# Altium schematic symbol library ICs.SchLib: 20 symbols (part 1 of 2)
Pins are listed as number, name and electrical type; pins without a type are passive.

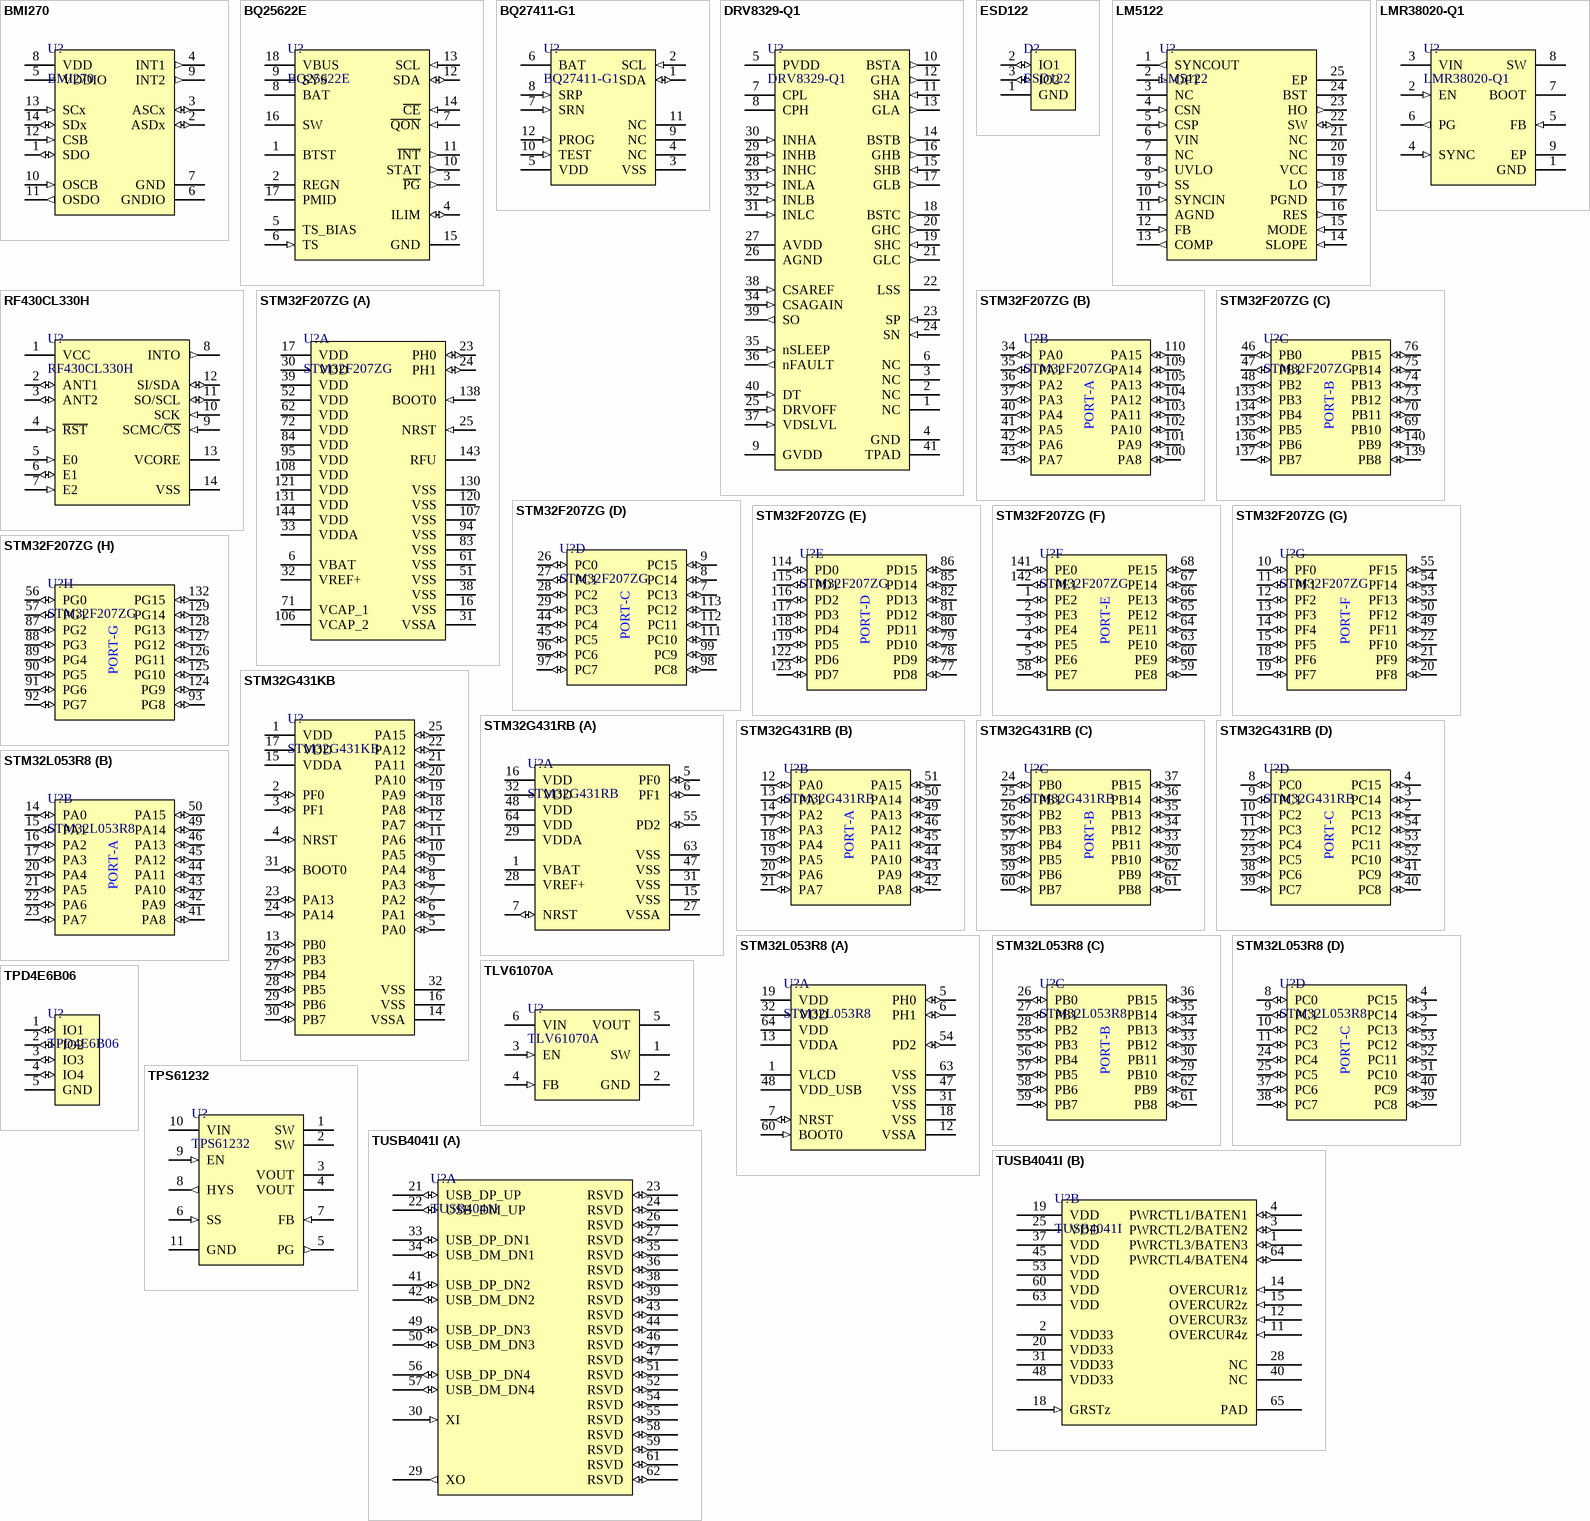
[diagram p0: symbols BMI270 to TUSB4041I]

## BMI270
designator U?
6-axis, smart, low power Inertial Measurement Unit; Manufacturer 1: Bosch Tools; Description 1: LGA-14(2.5x3) Attitude Sensor/Gyroscope ROHS; Category 1: Sensors; Supplier 1: DigiKey; Supplier Part Number 1: 828-1091-1-ND; Manufacturer Part Number 1: BMI270; RoHS 1: Compliant; Export Control Classification Number (ECCN) Code: EAR99; Introduction Date: 2019-05-31; Lifecycle Status: Production; REACH SVHC: Yes; ComponentLink1URL: https://datasheet.octopart.com:443/BMI270-Bosch-Tools-datasheet-181206537.pdf?src-supplier=IHS; ComponentLink1Description: https://datasheet.octopart.com:443/BMI270-Bosch-Tools-datasheet-181206537.pdf?src-supplier=IHS; Supplier 2: DigiKey; Supplier Part Number 2: 828-1091-6-ND; Supplier 3: DigiKey; Supplier Part Number 3: 828-1091-2-ND; Supplier 4: Mouser; Supplier Part Number 4: 262-BMI270
footprint BOSCH_SENSORTEC-BMI270 (6-axis, smart, low power Inertial Measurement Unit)
pins: 1 SDO (io) "SDO Serial data output in SPI 4W/ I2C Address bit-0 select in I2C mode.", 2 ASDx (io) "Aux interface/ OIS interface.", 3 ASCx (io) "Aux interface/ OIS interface.", 4 INT1 (out) "Interrupt pin 1", 5 VDDIO (power) "Digital I/O supply voltage (1.2 to 3.6V).", 6 GNDIO (power) "Ground for I/O.", 7 GND (power) "Ground for digital & analog.", 8 VDD (power) "Power supply analog & digital domain (1.71V – 3.6V).", 9 INT2 (out) "Interrupt pin 2", 10 OSCB (in) "OIS interface.", 11 OSDO (out) "OIS interface.", 12 CSB (in) "Chip select for SPI mode.", 13 SCx (in) "SCK for SPI serial clock/ SCL for I2C serial clock.", 14 SDx (io) "SDA serial data I/O in I2C, SDI serial data input in SPI 4W, SDA serial data I/O in SPI 3W"

## BQ25622E
designator U?
I2C controlled one-cell 3-A buck battery charger with up to 18-V input, current limit, and ADC; Manufacturer 1: Texas Instruments; Manufacturer Part Number 1: BQ25622ERYKR; Manufacturer Lifecycle Status: ACTIVE; Description 1: I²C controlled one-cell 3-A buck battery charger with up to 18-V input, current limit, and ADC 18-WQFN-HR -40 to 85; Category 1: Battery Management; Number of Pins 1: 18; RoHS 1: Compliant; Height: 0m; Length: 2.5mm; Lifecycle Status: Production; Thickness: 750µm; Width: 3mm; ComponentLink1URL: https://octopart.com:443/opatz8j6/c1?t=EFhaV0WMcojBEZl8jVlVSjcpTQ_9I1SIc4vR8UnI8sHyLBDmyMTCADh83FCiOebgVNQaVsQhE1R4PwCigc1P6fcVrMm0i7ydM_A4X-mtQfRiSHBlo4HupEHnsfu4zE8KbKWIZ97FNsH8bRKRdwujN3gXbG233Q2yrlJE23Z46C_84_lp6bbKgLf2ew-r0VxAaJjkpxgl0ppfCR6MMpHidcd9rF24E3HfhhAM6Pvg20wg-xwRkxcizNPG0fBJwjlb5iZ8HUMFvqFCW3QI0RpUwHy6iVM4N4aFLNHr6qbMM3VyDzl1dFLKmtLlrp5gUqkI7Z9F6HZRD2S7H_upWbX88mfWIIF9HcttMQlNCuEeTdM9nLalKtratdUcAIyTut3ONxo4hE6ULg&src-supplier=Texas+Instruments; ComponentLink1Description: https://octopart.com:443/opatz8j6/c1?t=EFhaV0WMcojBEZl8jVlVSjcpTQ_9I1SIc4vR8UnI8sHyLBDmyMTCADh83FCiOebgVNQaVsQhE1R4PwCigc1P6fcVrMm0i7ydM_A4X-mtQfRiSHBlo4HupEHnsfu4zE8KbKWIZ97FNsH8bRKRdwujN3gXbG233Q2yrlJE23Z46C_84_lp6bbKgLf2ew-r0VxAaJjkpxgl0ppfCR6MMpHidcd9rF24E3HfhhAM6Pvg20wg-xwRkxcizNPG0fBJwjlb5iZ8HUMFvqFCW3QI0RpUwHy6iVM4N4aFLNHr6qbMM3VyDzl1dFLKmtLlrp5gUqkI7Z9F6HZRD2S7H_upWbX88mfWIIF9HcttMQlNCuEeTdM9nLalKtratdUcAIyTut3ONxo4hE6ULg&src-supplier=Texas+Instruments; Supplier 1: DigiKey; Supplier Part Number 1: 296-BQ25622ERYKRCT-ND; Supplier 2: DigiKey; Supplier Part Number 2: 296-BQ25622ERYKRDKR-ND; Supplier 3: DigiKey; Supplier Part Number 3: 296-BQ25622ERYKRTR-ND; Supplier 4: Mouser; Supplier Part Number 4: 595-BQ25622ERYKR; Supplier 5: Arrow Electronics; Supplier Part Number 5: BQ25622ERYKR; Supplier 6: LCSC; Supplier Part Number 6: C17702457
footprint TI-RYK0018A (BQ25622E)
pins: 1 BTST (power) "High Side Switching MOSFET Gate Driver Power Supply", 2 REGN (power) "The Charger Internal Linear Regulator Output", 3 ~{PG} (out) "Open Drain Active Low Power Good Indicator", 4 ILIM (io) "Input Current Limit Setting Input Pin", 5 TS_BIAS (power) "Bias for the TS Resistor Voltage Divider", 6 TS (in) "Temperature Qualification Voltage Input", 7 ~{QON} (in) "BATFET Enable or System Power Reset Control Input", 8 BAT (power) "The Battery Charging Power Connection", 9 SYS (power) "The Charger Output Voltage to System", 10 STAT (out) "Open Drain Charge Status Output", 11 ~{INT} (out) "Open Drain Interrupt Output", 12 SDA (io) "I2C Interface Data", 13 SCL (in) "I2C Interface Clock", 14 ~{CE} (in) "Active Low Charge Enable Pin", 15 GND (power) "Ground Return", 16 SW (power) "Switching Node Connecting to Output Inductor", 17 PMID (power) "HSFET Drain Connection", 18 VBUS (power) "Charger Input Voltage"

## BQ27411-G1
designator U?
Single-Cell Li-Ion Battery Fuel Gauge for Battery Pack Integration; Manufacturer 1: Texas Instruments; Manufacturer Part Number 1: BQ27411DRZT-G1A; Manufacturer Lifecycle Status: ACTIVE; Description 1: Pack-side Impedance Track™ fuel gauge | battery gas gauge 12-SON -40 to 85; Category 1: Battery Management; Interface 1: I2C; Max Supply Voltage 1: 4.5V; Min Supply Voltage 1: 2.45V; Mount 1: Surface Mount; Number of Cells: 1; Number of Pins 1: 12; Operating Supply Current: 93µA; Output Current 1: 500µA; Output Voltage 1: 1.8V; RoHS 1: Compliant; Contact Plating: Gold; Height: 0m; Lead Free 1: Lead Free; Length: 4mm; Lifecycle Status: Production; Max Operating Temperature 1: 85°C; Min Operating Temperature 1: -40°C; REACH SVHC: No; Schedule B: 8542390000; Thickness: 850µm; Width: 2.5mm; ComponentLink3URL: https://datasheet.octopart.com:443/BQ27411DRZT-G1A-Texas-Instruments-datasheet-32736855.pdf?src-supplier=Texas+Instruments; ComponentLink3Description: https://datasheet.octopart.com:443/BQ27411DRZT-G1A-Texas-Instruments-datasheet-32736855.pdf?src-supplier=Texas+Instruments; Manufacturer Part Number 2: BQ27411DRZR-G1A; Manufacturer Part Number 3: BQ27411DRZR-G1C; Manufacturer Part Number 4: BQ27411DRZT-G1C; Manufacturer Part Number 5: BQ27411DRZT-G1CG4; Supplier 1: DigiKey; Supplier Part Number 1: 296-37269-1-ND; Supplier 2: DigiKey; Supplier Part Number 2: 296-37269-6-ND; Supplier 3: DigiKey; Supplier Part Number 3: 296-37269-2-ND; Supplier 4: Mouser; Supplier Part Number 4: 595-BQ27411DRZT-G1A; Supplier 5: LCSC; Supplier Part Number 5: C2878137; Supplier 6: Arrow Electronics; Supplier Part Number 6: BQ27411DRZR-G1A; Supplier 7: DigiKey; Supplier Part Number 7: 296-39935-2-ND; Supplier 8: DigiKey; Supplier Part Number 8: 296-39936-2-ND; Supplier 9: DigiKey; Supplier Part Number 9: 296-37270-1-ND; Supplier 10: DigiKey; Supplier Part Number 10: 296-37270-6-ND; Supplier 11: DigiKey; Supplier Part Number 11: 296-37270-2-ND; Supplier 12: Mouser; Supplier Part Number 12: 595-BQ27411DRZT-G1C; Supplier 13: Mouser; Supplier Part Number 13: 595-BQ27411DRZT-G1C4
footprint TI-DRZ0012A (BQ27411-G1)
pins: 1 SDA (io) "I2C Interface Data", 2 SCL (in) "I2C Interface Clock", 3 VSS (power) "Ground pin", 4 NC (hiz) "No internal connection. May be left floating or tied to VSS.", 5 VDD (power) "1.8-V Regulator Output. Decouple with 0.47-μF ceramic capacitor to VSS.", 6 BAT (power) "LDO regulator input, battery voltage input, and coulomb counter input typically connected to the PACK+ terminal. Connect a capacitor (1 µF) between BAT to VSS.", 7 SRN (in) "Coulomb counter differential inputs expecting an external 10-mΩ, 1% sense resistor. Connect SRP to BAT (CELLP) and connect SRN to PACKP.", 8 SRP (in) "Coulomb counter differential inputs expecting an external 10-mΩ, 1% sense resistor. Connect SRP to BAT (CELLP) and connect SRN to PACKP.", 9 NC (hiz) "No internal connection. May be left floating or tied to VSS.", 10 TEST (in) "This digital factory TEST pin must be pulled low for proper operation in customer's application. Recommend terminating with a 1.0-MΩ (typical) pulldown resistor to VSS for reduced power consumption.", 11 NC (hiz) "No internal connection. May be left floating or tied to VSS.", 12 PROG (in) "Programming voltage input for the One Time Programmable (OTP) memory to be used during customer factory configuration. To avoid a floating input condition, recommend terminating with a 1.0-MΩ (typical) pulldown resistor to VSS for reduced power consumption."

## DRV8329-Q1
designator U?
Automotive 60V three-phase gate driver with single current-sense amplifier; Manufacturer 1: Texas Instruments; Manufacturer Part Number 1: DRV8329AQRGFRQ1; Manufacturer Lifecycle Status: ACTIVE; Description 1: Automotive 60V three-phase gate driver with single current-sense amplifier 40-VQFN -40 to 125; Category 1: Motor Drivers; Case/Package 1: VQFN; Number of Pins 1: 40; Supplier 1: DigiKey; Supplier Part Number 1: 296-DRV8329AQRGFRQ1DKR-ND; RoHS 1: Compliant; Height: 1mm; Length: 7mm; Lifecycle Status: Production; Thickness: 880µm; Width: 5mm; ComponentLink1URL: https://sigma.octopart.com:443/158891058/technical_drawing/Texas-Instruments-DRV8329AQRGFRQ1.pdf?src-supplier=Texas+Instruments; ComponentLink1Description: https://sigma.octopart.com:443/158891058/technical_drawing/Texas-Instruments-DRV8329AQRGFRQ1.pdf?src-supplier=Texas+Instruments; Manufacturer Part Number 2: DRV8329BQRGFRQ1; Supplier 2: DigiKey; Supplier Part Number 2: 296-DRV8329AQRGFRQ1CT-ND; Supplier 3: DigiKey; Supplier Part Number 3: 296-DRV8329AQRGFRQ1TR-ND; Supplier 4: LCSC; Supplier Part Number 4: C22435456; Supplier 5: Mouser; Supplier Part Number 5: 595-DRV8329AQRGFRQ1; Supplier 6: DigiKey; Supplier Part Number 6: 296-DRV8329BQRGFRQ1TR-ND; Supplier 7: Arrow Electronics; Supplier Part Number 7: DRV8329BQRGFRQ1; Supplier 8: Mouser; Supplier Part Number 8: 595-DRV8329BQRGFRQ1; Supplier 9: LCSC; Supplier Part Number 9: C43152666
footprint TI-RGF0040F (DRV8329-Q1)
pins: 1 NC "No connection.", 2 NC "No connection.", 3 NC "No connection.", 4 GND (power) "Device ground.", 5 PVDD (power) "Gate driver power supply input.", 6 NC "No connection.", 7 CPL (power) "Charge pump switching node. Connect a X5R or X7R, PVDD-rated ceramic capacitor between the CPH and CPL pins.", 8 CPH (power) "Charge pump switching node. Connect a X5R or X7R, PVDD-rated ceramic capacitor between the CPH and CPL pins.", 9 GVDD (power) "Gate driver power supply output.", 10 BSTA (out) "Bootstrap output pin for Phase A.", 11 SHA (in) "High-side source pin for Phase A.", 12 GHA (out) "High-side gate driver output for Phase A.", 13 GLA (out) "Low-side gate driver output for Phase A.", 14 BSTB (out) "Bootstrap output pin for Phase B.", 15 SHB (in) "High-side source pin for Phase B.", 16 GHB (out) "High-side gate driver output for Phase B.", 17 GLB (out) "Low-side gate driver output for Phase B.", 18 BSTC (out) "Bootstrap output pin for Phase C.", 19 SHC (in) "High-side source pin for Phase C.", 20 GHC (out) "High-side gate driver output for Phase C.", 21 GLC (out) "Low-side gate driver output for Phase C.", 22 LSS (power) "Low side source pin, connect all sources of the external low-side MOSFETs here.", 23 SP (in) "Current sense amplifier positive input.", 24 SN (in) "Current sense amplifier negative input.", 25 DRVOFF (in) "Independent driver shutdown path.", 26 AGND (power) "Device analog ground.", 27 AVDD (power) "3.3V regulator output.", 28 INHC (in) "High-side gate driver control input for Phase C.", 29 INHB (in) "High-side gate driver control input for Phase B.", 30 INHA (in) "High-side gate driver control input for Phase A.", 31 INLC (in) "Low-side gate driver control input for Phase C.", 32 INLB (in) "Low-side gate driver control input for Phase B.", 33 INLA (in) "Low-side gate driver control input for Phase A.", 34 CSAGAIN (in) "Gain settings for Current sense amplifier.", 35 nSLEEP (in) "Sleep mode entry pin.", 36 nFAULT (out) "Fault indicator output.", 37 VDSLVL (in) "VDS monitor trip point setting.", 38 CSAREF (in) "Current sense amplifier reference.", 39 SO (out) "Current sense amplifier output.", 40 DT (in) "Gate drive deadtime setting.", 41 TPAD (power) "Must be connected to GND"

## ESD122
designator D?
2-Channel ESD Protection Diode for USB Type-C and HDMI 2.0; Manufacturer 1: Texas Instruments; Manufacturer Part Number 1: ESD122DMYR; Manufacturer Lifecycle Status: ACTIVE; Description 1: Dual 0.2-pF, ±3.6-V, ±17-kV ESD protection diode for USB Type-C and HDMI 2.0 3-X2SON -40 to 125; Category 1: ESD and Circuit Protection ICs; Breakdown Voltage: 5.1V; Capacitance: 200fF; Clamping Voltage: 8.4V; Direction: Bidirectional; Number of Channels: 2; Number of Pins 1: 3; Operating Supply Voltage: 3.6V; Packaging 1: Cut Tape; Peak Pulse Current: 2.5A; Supplier 1: DigiKey; Supplier Part Number 1: 296-47120-1-ND; RoHS 1: Compliant; Ambient Temperature Range High: 125°C; Height: 400µm; Interface 1: USB; Length: 1.3mm; Lifecycle Status: Production; Max Operating Temperature 1: 125°C; Min Operating Temperature 1: -40°C; Reverse Standoff Voltage: 3.6V; Schedule B: 8541100080, 8541100080|8541100080|8541100080|8541100080|8541100080|8541100080|8541100080|8541100080|8541100080|8541100080|8541100080|8541100080|8541100080|8541100080|8541100080|8541100080|8541100080|8541100080|8541100080|8541100080|8541100080|8541100080|8541100080|85; Thickness: 350µm; Width: 600µm; ComponentLink1URL: https://octopart.com:443/opatz8j6/c1?t=U4LE7NW88U7wrgAry4Rb8-AWPqlWM1C95rhZ0jWEFnbunLoDq_51AAkACiJnQW2aXn_TGsigh7gMnngttJJapr1RfipyAQHe4GaZxGVj1ph435AX5ngn3mgaHfVyWZanL6BS83Z-mjqUx8TcwahOdTwoUyiGc4LRrUvbuEnaD0o8EV4fivVx00A6SmAh0tiov9osG8gdcIFwOb0INq4Mrn_t9xHTEvYrzvzb9bWD38abieslGbj1RDFLCGBdZ1rb5JZ7zvzOmfRjjiskogvzrJNJxStRL7hbwm0V7xDSLILaPxtXEQT-WGi9JdSQFMnwfOI89rXKpKe1bJHp6plXsWvtmwWNB085Zb9R0xkIrfCQYc3CI35pWJf56MS2oV2_76gMzA&src-supplier=Texas+Instruments; ComponentLink1Description: https://octopart.com:443/opatz8j6/c1?t=U4LE7NW88U7wrgAry4Rb8-AWPqlWM1C95rhZ0jWEFnbunLoDq_51AAkACiJnQW2aXn_TGsigh7gMnngttJJapr1RfipyAQHe4GaZxGVj1ph435AX5ngn3mgaHfVyWZanL6BS83Z-mjqUx8TcwahOdTwoUyiGc4LRrUvbuEnaD0o8EV4fivVx00A6SmAh0tiov9osG8gdcIFwOb0INq4Mrn_t9xHTEvYrzvzb9bWD38abieslGbj1RDFLCGBdZ1rb5JZ7zvzOmfRjjiskogvzrJNJxStRL7hbwm0V7xDSLILaPxtXEQT-WGi9JdSQFMnwfOI89rXKpKe1bJHp6plXsWvtmwWNB085Zb9R0xkIrfCQYc3CI35pWJf56MS2oV2_76gMzA&src-supplier=Texas+Instruments; Supplier 2: DigiKey; Supplier Part Number 2: 296-47120-6-ND; Supplier 3: DigiKey; Supplier Part Number 3: 296-47120-2-ND; Supplier 4: Arrow Electronics; Supplier Part Number 4: ESD122DMYR; Supplier 5: Mouser; Supplier Part Number 5: 595-ESD122DMYR; Supplier 6: LCSC; Supplier Part Number 6: C1975871
footprint TI-DMY0003A (ESD122)
ibis ESD122DMX (Model Description)
pins: 1 GND (power) "Ground", 2 IO1 (io) "ESD protected channel", 3 IO2 (io) "ESD protected channel"

## LM5122
designator U?
3-65V Wide Vin, Current Mode Synchronous Boost Controller with Multiphase Capability; Manufacturer 1: Texas Instruments; Description 1: DC DC Cntrlr Single-OUT Synchronous Boost Controller 4.5V to 65V Input 20-Pin HTSSOP EP T/R; Category 1: Voltage Regulators - Switching; Mount 1: Surface Mount; Case/Package 1: HTSSOP; Number of Pins 1: 20; Output Voltage 1: 100V; Output Current 1: 15A; Switching Frequency: 1MHz; Packaging 1: Cut Tape; Number of Outputs 1: 1; Max Duty Cycle: 100%; Synchronous Rectifier: Yes; Min Supply Voltage 1: 4.5V; Max Supply Voltage 1: 65V; Quiescent Current: 4mA; Output Configuration: Positive; Manufacturer Part Number 1: LM5122; RoHS 1: Yes; Min Operating Temperature 1: -40°C; Max Operating Temperature 1: 125°C; Series: -; Number of Output Phases: 1; Clock Sync: Yes; Topology: Boost; Radiation Hardening: No; Reach SVHC Compliant: No; Lead Free 1: Lead Free; RoHS Compliant 1: Yes; ComponentLink1URL: https://datasheet.ciiva.com/30010/lm5122-30010537.pdf?src-supplier=Avnet; ComponentLink1Description: https://datasheet.ciiva.com/30010/lm5122-30010537.pdf?src-supplier=Avnet; Supplier 1: Mouser; Supplier Part Number 1: 595-LM5122ZPWPR; Supplier 2: Texas Instruments; Supplier Part Number 2: LM5122ZPWPR; Supplier 3: Digi-Key; Supplier Part Number 3: 296-51315-2-ND; Supplier 4: LCSC; Supplier Part Number 4: C2658810; Supplier 5: Mouser; Supplier Part Number 5: 595-LM5122ZPWPT; Supplier 6: Texas Instruments; Supplier Part Number 6: LM5122ZPWPT; Supplier 7: Digi-Key; Supplier Part Number 7: 296-LM5122ZPWPTCT-ND; Supplier 8: Digi-Key; Supplier Part Number 8: 296-LM5122ZPWPTDKR-ND; Supplier 9: Digi-Key; Supplier Part Number 9: 296-LM5122ZPWPTTR-ND
footprint TI-PWP0024J (LM5122)
simulation model LM5122_TRANS (Model Description)
pins: 1 SYNCOUT (out) "Clock output pin. SYNCOUT provides 180° shifted clock output for an interleaved operation. SYNCOUT pin can be left floating when it is not used.", 2 OPT (in) "Clock synchronization selection pin. This pin also enables/disables SYNCOUT related with master/slave configuration. The OPT pin should not be left floating.", 3 NC "No electrical contact", 4 CSN (in) "Inverting input of current sense amplifier. Connect to the negative-side of the current sense resistor.", 5 CSP (in) "Non-inverting input of current sense amplifier. Connect to the positive-side of the current sense resistor.", 6 VIN (power) "Supply voltage input source for the VCC regulator. Connect to input capacitor and source power supply connection with short, low impedance paths.", 7 NC "No electrical contact", 8 UVLO (in) "Undervoltage lockout programming pin.", 9 SS (in) "Soft-start programming pin. An external capacitor and an internal 10-μA current source set the ramp rate of the internal error amplifier reference during soft-start.", 10 SYNCIN (in) "The internal oscillator frequency is programmed by a single resistor between RT and the AGND. The internal oscillator can be synchronized to an external clock by applying a positive pulse signal into this SYNCIN pin. The recommended maximum internal oscillator frequency in master configuration is 2 MHz which leads to 1 MHz maximum switching frequency.", 11 AGND (power) "Analog ground connection. Return for the internal voltage reference and analog circuits.", 12 FB (in) "Feedback. Inverting input of the internal error amplifier. A resistor divider from the output to this pin sets the output voltage level. The regulation threshold at the FB pin is 1.2 V. The controller is configured as slave mode if the FB pin voltage is above 2.7 V at initial power-on.", 13 COMP (out) "Output of the internal error amplifier. Connect the loop compensation network between this pin and the FB pin.", 14 SLOPE (in) "Slope compensation is programmed by a single resistor between SLOPE and the AGND.", 15 MODE (in) "Switching mode selection pin. 700-kΩ pullup and 100-kΩ pulldown resistor internal hold MODE pin to 0.15 V as a default. By adding external pullup or pulldown resistor, MODE pin voltage can be programmed. When MODE pin voltage is greater than 1.2-V diode emulation mode threshold, forced PWM mode is enabled, allowing current to flow in either direction through the high-side N-channel MOSFET switch. When MODE pin voltage is less than 1.2 V, the controller works in diode emulation mode. Skip cycle comparator is activated as a default. If MODE pin is grounded, the controller still operates in diode emulation mode, but the skip cycle comparator will not be triggered in normal operation, this enables pulse skipping operation at light load.", 16 RES (out) "The restart timer pin for an external capacitor that configures hiccup mode off-time and restart delay during over load conditions. Connect directly to the AGND when hiccup mode operation is not required.", 17 PGND (power) "Power ground connection pin for low-side N-channel MOSFET gate driver. Connect directly to the source terminal of the low-side N-channel MOSFET switch.", 18 LO (out) "Low-side N-channel MOSFET gate drive output. Connect to the gate of the low-side N-channel MOSFET switch through a short, low inductance path.", 19 VCC (power) "VCC bias supply pin. Locally decouple to PGND using a low ESR/ESL capacitor located as close as possible to controller.", 20 NC "No electrical contact", 21 NC "No electrical contact", 22 SW (io) "Switching node of the boost regulator. Connect to the bootstrap capacitor, the source terminal of the high-side N-channel MOSFET switch and the drain terminal of the low-side N-channel MOSFET switch through short, low inductance paths.", 23 HO (out) "High-side N-channel MOSFET gate drive output. Connect to the gate of the high-side synchronous N-channel MOSFET switch through a short, low inductance path.", 24 BST (power) "High-side driver supply for bootstrap gate drive. Connect to the cathode of the external bootstrap diode and to the bootstrap capacitor. The bootstrap capacitor supplies current to charge the high-side N-channel MOSFET gate and should be placed as close to controller as possible. An internal BST charge pump supplies 200-µA current into bootstrap capacitor for bypass operation.", 25 EP "Exposed pad of the package. No internal electrical connections. Must be soldered to the large ground plane to reduce thermal resistance."

## LMR38020-Q1
designator U?
Automotive SIMPLE SWITCHER® power converter 4.2-V to 80-V, 2-A, synchronous buck converter; Manufacturer 1: Texas Instruments; Manufacturer Part Number 1: LMR38020FSQDDARQ1; Manufacturer Lifecycle Status: ACTIVE; Description 1: Automotive SIMPLE SWITCHER® power converter 4.2-V to 80-V, 2-A, synchronous buck converter 8-SO PowerPAD -40 to 150; Category 1: Voltage Regulators - Switching; Number of Pins 1: 8; Supplier 1: DigiKey; Supplier Part Number 1: 296-LMR38020FSQDDARQ1CT-ND; RoHS 1: Compliant; Height: 1.7mm; Length: 4.89mm; Lifecycle Status: Production; Thickness: 1.48mm; Topology: Buck; Width: 3.9mm; ComponentLink1URL: https://octopart.com:443/opatz8j6/c1?t=NYjhMWv1qJOmOQyxw5IqiJ1aIG5ahw5qFrN4ZUL9OPqkRMz7eJqrrHsTnwKLmpiSTJmm7dvb-Z_g4RjXdozJTLthPQkAeGQ_qL8f2TFgDfyPk2AF0smUGxqY243Vx0SujC8yXlJjM9g8As_BONv6iagAB4sVQuB2THRCxLP55d3ZE0jenQkTUG1m941JujxiwwxpoLnS7D55JVETECAXCugwJEZ8OUcHoXN9SW9Q5_pZ5Pc0Nu9Z7xyWbhnWFN-w7ZofBfUw5Wof9UOMHLol0yjl4Zw08nVaNCRpQGg2kKA3s0jliXtiE6WFNu3baheTpOKpCtq4ap0SR-UhBGJf320iLJ3Akbjysy9uSIb_BSUfibdeQz_HEsQAz3KbkyDPZ5cIgcv4wrTaew&src-supplier=Texas+Instruments; ComponentLink1Description: https://octopart.com:443/opatz8j6/c1?t=NYjhMWv1qJOmOQyxw5IqiJ1aIG5ahw5qFrN4ZUL9OPqkRMz7eJqrrHsTnwKLmpiSTJmm7dvb-Z_g4RjXdozJTLthPQkAeGQ_qL8f2TFgDfyPk2AF0smUGxqY243Vx0SujC8yXlJjM9g8As_BONv6iagAB4sVQuB2THRCxLP55d3ZE0jenQkTUG1m941JujxiwwxpoLnS7D55JVETECAXCugwJEZ8OUcHoXN9SW9Q5_pZ5Pc0Nu9Z7xyWbhnWFN-w7ZofBfUw5Wof9UOMHLol0yjl4Zw08nVaNCRpQGg2kKA3s0jliXtiE6WFNu3baheTpOKpCtq4ap0SR-UhBGJf320iLJ3Akbjysy9uSIb_BSUfibdeQz_HEsQAz3KbkyDPZ5cIgcv4wrTaew&src-supplier=Texas+Instruments; Manufacturer Part Number 2: LMR38020SQDDARQ1; Supplier 2: DigiKey; Supplier Part Number 2: 296-LMR38020FSQDDARQ1DKR-ND; Supplier 3: DigiKey; Supplier Part Number 3: 296-LMR38020FSQDDARQ1TR-ND; Supplier 4: Mouser; Supplier Part Number 4: 595-MR38020FSQDDARQ1; Supplier 5: LCSC; Supplier Part Number 5: C20345530; Supplier 6: DigiKey; Supplier Part Number 6: 296-LMR38020SQDDARQ1-ND; Supplier 7: Mouser; Supplier Part Number 7: 595-LMR38020SQDDARQ1; Supplier 8: LCSC; Supplier Part Number 8: C18212861
footprint TI-DDA0008B (LMR38020-Q1)
simulation model LMR38020S-Q1_TRANS (Model Description)
pins: 1 GND (power) "Power and analog ground terminal.", 2 EN (in) "Enable input to regulator.", 3 VIN (power) "Input supply to the regulator.", 4 SYNC (in) "Resistor timing or external clock input.", 5 FB (in) "Feedback input to the regulator.", 6 PG (out) "Open-drain power-good flag output.", 7 BOOT (power) "Bootstrap supply voltage for the internal high-side driver.", 8 SW (power) "Regulator switch node.", 9 EP (power) "Connect to system ground."

## RF430CL330H
designator U?
Dynamic Dual Interface NFC Transponder; Manufacturer 1: Texas Instruments; Manufacturer Part Number 1: RF430CL330HCPWR; Manufacturer Lifecycle Status: ACTIVE; Description 1: NFC/RFID Tag and Transponder 13560kHz 14-Pin TSSOP T/R / IC NFC DYNAMIC TAG TARG 14-TSSOP; Category 1: NFC / RFID Components; Case/Package 1: TSSOP; Density: 0b; Frequency: 13.56MHz; Interface 1: I2C, SPI; Max Supply Voltage 1: 3.6V; Min Supply Voltage 1: 2V; Mount 1: Surface Mount; Number of Pins 1: 14; Number of UART Channels: 0; Packaging 1: Digi-Reel®; RAM Size: 3kB; Supplier 1: DigiKey; Supplier Part Number 1: 296-36223-1-ND; RoHS 1: Compliant; Contact Plating: Gold; Height: 0m; Lead Free 1: Lead Free; Length: 5mm; Lifecycle Status: Production; Max Frequency: 13.56MHz; Max Operating Temperature 1: 85°C; Min Operating Temperature 1: -40°C; Radiation Hardening: No; REACH SVHC: No; Schedule B: 8542310000, 8542310000|8542310000, 8542310000|8542310000|8542310000, 8542310000|8542310000|8542310000|8542310000; Thickness: 1mm; Width: 4.4mm; ComponentLink3URL: https://datasheet.octopart.com:443/RF430CL330HCPWR-Texas-Instruments-datasheet-37725864.pdf?src-supplier=Texas+Instruments; ComponentLink3Description: https://datasheet.octopart.com:443/RF430CL330HCPWR-Texas-Instruments-datasheet-37725864.pdf?src-supplier=Texas+Instruments; Manufacturer Part Number 2: RF430CL330HIRGTR; Supplier 2: DigiKey; Supplier Part Number 2: 296-36223-6-ND; Supplier 3: DigiKey; Supplier Part Number 3: 296-36223-2-ND; Supplier 4: Mouser; Supplier Part Number 4: 595-RF430CL330HCPWR; Supplier 5: Arrow Electronics; Supplier Part Number 5: RF430CL330HCPWR; Supplier 6: LCSC; Supplier Part Number 6: C130195; Supplier 7: DigiKey; Supplier Part Number 7: 296-48649-1-ND; Supplier 8: DigiKey; Supplier Part Number 8: 296-48649-6-ND; Supplier 9: DigiKey; Supplier Part Number 9: 296-48649-2-ND; Supplier 10: Mouser; Supplier Part Number 10: 595-RF430CL330HIRGTR; Supplier 11: LCSC; Supplier Part Number 11: C2655169
footprint TI-PW0014A (RF430CL330H)
pins: 1 VCC (power) "3.3V power supply", 2 ANT1 (io) "Antenna input 1", 3 ANT2 (io) "Antenna input 2", 4 ~{RST} (in) "Reset input (active low)", 5 E0 (in) "I2C address select 0, SPI mode select 0, (JTAG test mode select)", 6 E1 (io) "I2C address select 1, SPI mode select 1, (JTAG test data output)", 7 E2 (in) "I2C address select 2, (JTAG test data in)", 8 INTO (out) "Interrupt output, (JTAG test clock)", 9 SCMC/~{CS} (in) "Serial Communication Mode Select (during device initialization), Chip select (in SPI mode)", 10 SCK (in) "SPI clock input (SPI mode)", 11 SO/SCL (io) "SPI slave out (SPI mode), I2C clock (I2C mode)", 12 SI/SDA (io) "SPI slave in (SPI mode), I2C data (I2C mode)", 13 VCORE (power) "Regulated core supply voltage", 14 VSS (power) "Ground supply"

## STM32F207ZG
designator U?
High-performance Arm Cortex-M3 MCU with 1 Mbyte of Flash memory, 120 MHz CPU, ART Accelerator, Ethernet; Manufacturer 1: STMicroelectronics; Manufacturer Part Number 1: STM32F207ZGT7; Description 1: High-performance ARM Cortex-M3 MCU with 1 Mbyte Flash, 120 MHz CPU, ART Accelerator, Ethernet; Category 1: Microcontrollers; ADC Channels (Resolution): 24-Ch 12-Bit; Case/Package 1: LQFP; DAC Channels (Resolution): 2-Ch 12-Bit; Data Bus Width: 32b; EEPROM Memory Size: 0B; Flash Memory Size: 1MB; Frequency: 120MHz; Interface 1: Ethernet, IrDA, LIN, USB; Max Frequency: 26MHz; Max Power Dissipation: 500mW; Max Supply Current: 93mA; Max Supply Voltage 1: 3.6V; Min Supply Voltage 1: 1.8V; Nominal Supply Current: 2.5µA; Number of A/D Converters: 3; Number of ADC Channels: 24; Number of D/A Converters: 2; Number of Ethernet Channels: 1; Number of I/Os: 114; Number of Pins 1: 144; Number of PWM Channels: 4; Number of Timers/Counters: 17; Operating Supply Voltage: 3.3V; Oscillator Type: Internal; Peripherals: LCD, POR; RAM Size: 128kB; Watchdog Timer: Yes; Supplier 1: DigiKey; Supplier Part Number 1: 497-13810-ND; RoHS 1: Compliant; China RoHS: Compliant; Core Architecture: ARM; Country of Origin: Mainland China, Malaysia, Taiwan; Export Control Classification Number (ECCN) Code: 3A991.A.2; Height: 1.45mm; Height - Seated (Max): 1.6mm; Harmonized Tariff Schedule (HTS) Code: 8542.31.00.25; Introduction Date: 2012-04-24; Lead Free 1: Lead Free; Length: 20mm; Lifecycle Status: Production; Max Operating Temperature 1: 105°C; Memory Size: 1MB; Memory Type: FLASH; Min Operating Temperature 1: -40°C; Number of Channels: 24; Number of I2C Channels: 2; Number of Programmable I/O: 114; Number of SPI Channels: 3; Number of Terminals: 144; Number of UART Channels: 2; Number of USART Channels: 4; Number of USB Channels: 2; Radiation Hardening: No; REACH SVHC: Yes; Schedule B: 8542310000, 8542310000|8542310000|8542310000|8542310000|8542310000; Terminal Pitch: 500µm; Width: 20mm; ComponentLink1URL: https://datasheet.octopart.com:443/STM32F207ZGT7-STMicroelectronics-datasheet-140260401.pdf?src-supplier=IHS; ComponentLink1Description: https://datasheet.octopart.com:443/STM32F207ZGT7-STMicroelectronics-datasheet-140260401.pdf?src-supplier=IHS; Manufacturer Part Number 2: STM32F207ZGT6; Manufacturer Part Number 3: STM32F207ZGT6TR; Supplier 2: Arrow Electronics; Supplier Part Number 2: STM32F207ZGT7; Supplier 3: Mouser; Supplier Part Number 3: 511-STM32F207ZGT7; Supplier 4: Avnet; Supplier Part Number 4: STM32F207ZGT7; Supplier 5: LCSC; Supplier Part Number 5: C1340072; Supplier 6: Arrow Electronics; Supplier Part Number 6: STM32F207ZGT6; Supplier 7: DigiKey; Supplier Part Number 7: 497-11177-ND; Supplier 8: Future Electronics; Supplier Part Number 8: 6082265; Supplier 9: Future Electronics; Supplier Part Number 9: 1008284; Supplier 10: Mouser; Supplier Part Number 10: 511-STM32F207ZGT6; Supplier 11: Avnet; Supplier Part Number 11: STM32F207ZGT6; Supplier 12: Newark; Supplier Part Number 12: STM32F207ZGT6; Supplier 13: Farnell; Supplier Part Number 13: 2060920; Supplier 14: LCSC; Supplier Part Number 14: C13542; Supplier 15: Arrow Electronics; Supplier Part Number 15: STM32F207ZGT6TR; Supplier 16: DigiKey; Supplier Part Number 16: 497-17408-1-ND; Supplier 17: DigiKey; Supplier Part Number 17: 497-17408-6-ND; Supplier 18: DigiKey; Supplier Part Number 18: 497-17408-2-ND; Supplier 19: Mouser; Supplier Part Number 19: 511-STM32F207ZGT6TR; Supplier 20: Avnet; Supplier Part Number 20: STM32F207ZGT6TR; Supplier 21: Newark; Supplier Part Number 21: STM32F207ZGT6TR; Supplier 22: Farnell; Supplier Part Number 22: 2333231; Supplier 23: Farnell; Supplier Part Number 23: 2333231RL; Supplier 24: LCSC; Supplier Part Number 24: C1339719
ibis STM32F2_LQFP144 (Model Description)
footprint ST-LQFP144 (STM32F207ZG)
part A pins: 6 VBAT (power), 16 VSS (power), 17 VDD (power), 23 PH0 (io), 24 PH1 (io), 25 NRST (in), 30 VDD (power), 31 VSSA (power), 32 VREF+ (power), 33 VDDA (power), 38 VSS (power), 39 VDD (power), 51 VSS (power), 52 VDD (power), 61 VSS (power), 62 VDD (power), 71 VCAP_1 (power), 72 VDD (power), 83 VSS (power), 84 VDD (power), 94 VSS (power), 95 VDD (power), 106 VCAP_2 (power), 107 VSS (power), 108 VDD (power), 120 VSS (power), 121 VDD (power), 130 VSS (power), 131 VDD (power), 138 BOOT0 (in), 143 RFU, 144 VDD (power)
part B pins: 34 PA0 (io), 35 PA1 (io), 36 PA2 (io), 37 PA3 (io), 40 PA4 (io), 41 PA5 (io), 42 PA6 (io), 43 PA7 (io), 100 PA8 (io), 101 PA9 (io), 102 PA10 (io), 103 PA11 (io), 104 PA12 (io), 105 PA13 (io), 109 PA14 (io), 110 PA15 (io)
part C pins: 46 PB0 (io), 47 PB1 (io), 48 PB2 (io), 69 PB10 (io), 70 PB11 (io), 73 PB12 (io), 74 PB13 (io), 75 PB14 (io), 76 PB15 (io), 133 PB3 (io), 134 PB4 (io), 135 PB5 (io), 136 PB6 (io), 137 PB7 (io), 139 PB8 (io), 140 PB9 (io)
part D pins: 7 PC13 (io), 8 PC14 (io), 9 PC15 (io), 26 PC0 (io), 27 PC1 (io), 28 PC2 (io), 29 PC3 (io), 44 PC4 (io), 45 PC5 (io), 96 PC6 (io), 97 PC7 (io), 98 PC8 (io), 99 PC9 (io), 111 PC10 (io), 112 PC11 (io), 113 PC12 (io)
part E pins: 77 PD8 (io), 78 PD9 (io), 79 PD10 (io), 80 PD11 (io), 81 PD12 (io), 82 PD13 (io), 85 PD14 (io), 86 PD15 (io), 114 PD0 (io), 115 PD1 (io), 116 PD2 (io), 117 PD3 (io), 118 PD4 (io), 119 PD5 (io), 122 PD6 (io), 123 PD7 (io)
part F pins: 1 PE2 (io), 2 PE3 (io), 3 PE4 (io), 4 PE5 (io), 5 PE6 (io), 58 PE7 (io), 59 PE8 (io), 60 PE9 (io), 63 PE10 (io), 64 PE11 (io), 65 PE12 (io), 66 PE13 (io), 67 PE14 (io), 68 PE15 (io), 141 PE0 (io), 142 PE1 (io)
part G pins: 10 PF0 (io), 11 PF1 (io), 12 PF2 (io), 13 PF3 (io), 14 PF4 (io), 15 PF5 (io), 18 PF6 (io), 19 PF7 (io), 20 PF8 (io), 21 PF9 (io), 22 PF10 (io), 49 PF11 (io), 50 PF12 (io), 53 PF13 (io), 54 PF14 (io), 55 PF15 (io)
part H pins: 56 PG0 (io), 57 PG1 (io), 87 PG2 (io), 88 PG3 (io), 89 PG4 (io), 90 PG5 (io), 91 PG6 (io), 92 PG7 (io), 93 PG8 (io), 124 PG9 (io), 125 PG10 (io), 126 PG11 (io), 127 PG12 (io), 128 PG13 (io), 129 PG14 (io), 132 PG15 (io)
part B text: PORT-A
part C text: PORT-B
part D text: PORT-C
part E text: PORT-D
part F text: PORT-E
part G text: PORT-F
part H text: PORT-G

## STM32G431KB
designator U?
Mainstream Arm Cortex-M4 MCU 170 MHz with 128 Kbytes of Flash memory, Math Accelerator, Medium Analog level integration; Manufacturer 1: STMicroelectronics; Manufacturer Part Number 1: STM32G431KBT3; Description 1: MCU 32-Bit STM32 ARM Cortex-M4 RISC 128KB Flash 1.71V to 3.6V 32-Pin LQFP Tray; Category 1: Microcontrollers; ADC Channels (Resolution): 11-Ch 12-Bit; DAC Channels (Resolution): 4-Ch 12-Bit; EEPROM Memory Size: 0B; Interface 1: USB; Max Frequency: 48MHz; Max Supply Current: 34mA; Max Supply Voltage 1: 3.6V; Min Supply Voltage 1: 1.71V; Number of I/Os: 4; Number of Interrupts: 16; Number of Timers/Counters: 12; Operating Supply Voltage: 3V; Peripherals: POR; RAM Size: 32kB; Supplier 1: Mouser; Supplier Part Number 1: 511-STM32G431KBT3; RoHS 1: Compliant; China RoHS: Compliant; Country of Origin: Mainland China, Taiwan; Export Control Classification Number (ECCN) Code: 3A991.A.2; Height - Seated (Max): 1.6mm; Harmonized Tariff Schedule (HTS) Code: 8542.31.00.25; Introduction Date: 2020-03-31; Length: 7mm; Lifecycle Status: Production; Max Operating Temperature 1: 125°C; Memory Type: FLASH; Min Operating Temperature 1: -40°C; Number of Terminals: 32; REACH SVHC: Yes; Terminal Pitch: 800µm; Width: 7mm; Manufacturer Part Number 2: STM32G431KBT6; Manufacturer Part Number 3: STM32G431KBT6TR; Manufacturer Part Number 4: STM32G431KBT3TR; Supplier 2: DigiKey; Supplier Part Number 2: 497-STM32G431KBT3-ND; Supplier 3: Avnet; Supplier Part Number 3: STM32G431KBT3; Supplier 4: Arrow Electronics; Supplier Part Number 4: STM32G431KBT6; Supplier 5: DigiKey; Supplier Part Number 5: 497-19470-ND; Supplier 6: Mouser; Supplier Part Number 6: 511-STM32G431KBT6; Supplier 7: Future Electronics; Supplier Part Number 7: 2173328; Supplier 8: Avnet; Supplier Part Number 8: STM32G431KBT6; Supplier 9: Farnell; Supplier Part Number 9: 3132405; Supplier 10: Newark; Supplier Part Number 10: STM32G431KBT6; Supplier 11: LCSC; Supplier Part Number 11: C529357; Supplier 12: DigiKey; Supplier Part Number 12: 497-STM32G431KBT6TR-ND; Supplier 13: Avnet; Supplier Part Number 13: STM32G431KBT6TR; Supplier 14: Arrow Electronics; Supplier Part Number 14: STM32G431KBT6TR; Supplier 15: LCSC; Supplier Part Number 15: C5270317; Supplier 16: DigiKey; Supplier Part Number 16: 497-STM32G431KBT3TR-ND; Supplier 17: Avnet; Supplier Part Number 17: STM32G431KBT3TR; Supplier 18: Arrow Electronics; Supplier Part Number 18: STM32G431KBT3TR
ibis stm32g431_441_lqfp32 (Model Description)
footprint ST-LQFP32 (STM32G431KB)
pins: 1 VDD (power), 2 PF0 (io), 3 PF1 (io), 4 NRST (io), 5 PA0 (io), 6 PA1 (io), 7 PA2 (io), 8 PA3 (io), 9 PA4 (io), 10 PA5 (io), 11 PA6 (io), 12 PA7 (io), 13 PB0 (io), 14 VSSA (power), 15 VDDA (power), 16 VSS (power), 17 VDD (power), 18 PA8 (io), 19 PA9 (io), 20 PA10 (io), 21 PA11 (io), 22 PA12 (io), 23 PA13 (io), 24 PA14 (io), 25 PA15 (io), 26 PB3 (io), 27 PB4 (io), 28 PB5 (io), 29 PB6 (io), 30 PB7 (io), 31 BOOT0 (io), 32 VSS (power)

## STM32G431RB
designator U?
Mainstream Arm Cortex-M4 MCU 170 MHz with 128 Kbytes of Flash memory, Math Accelerator, Medium Analog level integration; Manufacturer 1: STMicroelectronics; Manufacturer Part Number 1: STM32G431RBT3; Description 1: MCU 32-bit ARM Cortex M4 RISC 128KB Flash 1.8V/2.5V/3.3V 64-Pin LQFP Tray; Category 1: Microcontrollers; ADC Channels (Resolution): 23-Ch 12-Bit; DAC Channels (Resolution): 4-Ch 12-Bit; EEPROM Memory Size: 0B; Flash Memory Size: 128kB; Frequency: 170MHz; Interface 1: UART, USB; Max Frequency: 48MHz; Max Supply Current: 34mA; Max Supply Voltage 1: 3.6V; Min Supply Voltage 1: 1.71V; Number of A/D Converters: 2; Number of Channels: 23; Number of I2C Channels: 3; Number of I/Os: 6; Number of Interrupts: 16; Number of Timers/Counters: 12; Number of UART Channels: 1; Operating Supply Voltage: 3V; Peripherals: POR; RAM Size: 32kB; Supplier 1: DigiKey; Supplier Part Number 1: 497-STM32G431RBT3-ND; RoHS 1: Compliant; China RoHS: Compliant; Core Architecture: ARM Cortex-M4; Export Control Classification Number (ECCN) Code: 3A991.A.2; Height - Seated (Max): 1.6mm; Harmonized Tariff Schedule (HTS) Code: 8542.31.00.25; Introduction Date: 2020-03-31; Length: 10mm; Lifecycle Status: Production; Max Operating Temperature 1: 125°C; Memory Type: FLASH; Min Operating Temperature 1: -40°C; Number of D/A Converters: 2; Number of SPI Channels: 3; Number of Terminals: 64; Number of USART Channels: 3; REACH SVHC: Yes; Terminal Pitch: 500µm; Width: 10mm; ComponentLink1URL: https://datasheet.octopart.com:443/STM32G431RBT3-STMicroelectronics-datasheet-136120343.pdf?src-supplier=Future+Electronics; ComponentLink1Description: https://datasheet.octopart.com:443/STM32G431RBT3-STMicroelectronics-datasheet-136120343.pdf?src-supplier=Future+Electronics; Manufacturer Part Number 2: STM32G431RBT3TR; Manufacturer Part Number 3: STM32G431RBT6; Manufacturer Part Number 4: STM32G431RBT6TR; Supplier 2: Mouser; Supplier Part Number 2: 511-STM32G431RBT3; Supplier 3: Avnet; Supplier Part Number 3: STM32G431RBT3; Supplier 4: LCSC; Supplier Part Number 4: C2970001; Supplier 5: DigiKey; Supplier Part Number 5: 497-STM32G431RBT3TR-ND; Supplier 6: Arrow Electronics; Supplier Part Number 6: STM32G431RBT3TR; Supplier 7: Future Electronics; Supplier Part Number 7: 3195867; Supplier 8: Avnet; Supplier Part Number 8: STM32G431RBT3TR; Supplier 9: Mouser; Supplier Part Number 9: 511-STM32G431RBT3TR; Supplier 10: Arrow Electronics; Supplier Part Number 10: STM32G431RBT6; Supplier 11: Avnet; Supplier Part Number 11: STM32G431RBT6; Supplier 12: DigiKey; Supplier Part Number 12: 497-19471-ND; Supplier 13: Future Electronics; Supplier Part Number 13: 3154398; Supplier 14: Future Electronics; Supplier Part Number 14: 2200382; Supplier 15: Mouser; Supplier Part Number 15: 511-STM32G431RBT6; Supplier 16: Newark; Supplier Part Number 16: STM32G431RBT6; Supplier 17: Farnell; Supplier Part Number 17: 3132409; Supplier 18: LCSC; Supplier Part Number 18: C431633; Supplier 19: Arrow Electronics; Supplier Part Number 19: STM32G431RBT6TR; Supplier 20: DigiKey; Supplier Part Number 20: 497-STM32G431RBT6TR-ND; Supplier 21: Avnet; Supplier Part Number 21: STM32G431RBT6TR; Supplier 22: Mouser; Supplier Part Number 22: 511-STM32G431RBT6TR
footprint ST-LQFP64 (STM32L053R8)
ibis stm32g431_441_lqfp64 (Model Description)
part A pins: 1 VBAT (power), 5 PF0 (io), 6 PF1 (io), 7 NRST (io), 15 VSS (power), 16 VDD (power), 27 VSSA (power), 28 VREF+ (power), 29 VDDA (power), 31 VSS (power), 32 VDD (power), 47 VSS (power), 48 VDD (power), 55 PD2 (io), 63 VSS (power), 64 VDD (power)
part B pins: 12 PA0 (io), 13 PA1 (io), 14 PA2 (io), 17 PA3 (io), 18 PA4 (io), 19 PA5 (io), 20 PA6 (io), 21 PA7 (io), 42 PA8 (io), 43 PA9 (io), 44 PA10 (io), 45 PA11 (io), 46 PA12 (io), 49 PA13 (io), 50 PA14 (io), 51 PA15 (io)
part C pins: 24 PB0 (io), 25 PB1 (io), 26 PB2 (io), 30 PB10 (io), 33 PB11 (io), 34 PB12 (io), 35 PB13 (io), 36 PB14 (io), 37 PB15 (io), 56 PB3 (io), 57 PB4 (io), 58 PB5 (io), 59 PB6 (io), 60 PB7 (io), 61 PB8 (io), 62 PB9 (io)
part D pins: 2 PC13 (io), 3 PC14 (io), 4 PC15 (io), 8 PC0 (io), 9 PC1 (io), 10 PC2 (io), 11 PC3 (io), 22 PC4 (io), 23 PC5 (io), 38 PC6 (io), 39 PC7 (io), 40 PC8 (io), 41 PC9 (io), 52 PC10 (io), 53 PC11 (io), 54 PC12 (io)
part B text: PORT-A
part C text: PORT-B
part D text: PORT-C

## STM32L053R8
designator U?
Ultra-low-power Arm Cortex-M0+ MCU with 64 Kbytes of Flash memory, 32 MHz CPU, USB, LCD; Manufacturer 1: STMicroelectronics; Manufacturer Part Number 1: STM32L053R8T6D; Description 1: Ultra-low-power ARM Cortex-M0+ MCU with 64 Kbytes Flash, 32 MHz CPU, USB, LCD; Category 1: Microcontrollers; ADC Channels (Resolution): 16-Ch 12-Bit; Case/Package 1: LQFP; DAC Channels (Resolution): 1-Ch 12-Bit; EEPROM Memory Size: 2kB; Flash Memory Size: 64kB; Frequency: 32MHz; Interface 1: I2S, UART, USB; Max Frequency: 25MHz; Max Supply Voltage 1: 3.6V; Min Supply Voltage 1: 1.65V; Nominal Supply Current: 290nA; Number of D/A Converters: 1; Number of I2C Channels: 2; Number of I/Os: 51; Number of Pins 1: 64; Number of Timers/Counters: 4; Operating Supply Voltage: 3V; Oscillator Type: Internal; Peripherals: LCD, POR; RAM Size: 8kB; RoHS 1: Compliant; China RoHS: Compliant; Core Architecture: ARM Cortex-M0+; Height - Seated (Max): 1.6mm; Length: 10mm; Lifecycle Status: Production; Max Operating Temperature 1: 85°C; Memory Size: 64kB; Memory Type: FLASH; Min Operating Temperature 1: -40°C; Number of SPI Channels: 2; Number of Terminals: 64; Number of USART Channels: 2; REACH SVHC: Yes; Terminal Pitch: 500µm; Width: 10mm; ComponentLink1URL: https://datasheet.octopart.com:443/STM32L053R8T6D-STMicroelectronics-datasheet-109682748.pdf?src-supplier=IHS; ComponentLink1Description: https://datasheet.octopart.com:443/STM32L053R8T6D-STMicroelectronics-datasheet-109682748.pdf?src-supplier=IHS; Manufacturer Part Number 2: STM32L053R8T6TR; Manufacturer Part Number 3: STM32L053R8T3; Manufacturer Part Number 4: STM32L053R8T6; Manufacturer Part Number 5: STM32L053R8T7; Supplier 1: Arrow Electronics; Supplier Part Number 1: STM32L053R8T6D; Supplier 2: DigiKey; Supplier Part Number 2: STM32L053R8T6D-ND; Supplier 3: Avnet; Supplier Part Number 3: STM32L053R8T6D; Supplier 4: Arrow Electronics; Supplier Part Number 4: STM32L053R8T6TR; Supplier 5: Avnet; Supplier Part Number 5: STM32L053R8T6TR; Supplier 6: DigiKey; Supplier Part Number 6: 497-19667-1-ND; Supplier 7: DigiKey; Supplier Part Number 7: 497-19667-6-ND; Supplier 8: DigiKey; Supplier Part Number 8: 497-19667-2-ND; Supplier 9: Mouser; Supplier Part Number 9: 511-STM32L053R8T6TR; Supplier 10: Future Electronics; Supplier Part Number 10: 5087979; Supplier 11: Newark; Supplier Part Number 11: 54AH7029; Supplier 12: Farnell; Supplier Part Number 12: 3365459; Supplier 13: Farnell; Supplier Part Number 13: 3365459RL; Supplier 14: Mouser; Supplier Part Number 14: 511-STM32L053R8T3; Supplier 15: DigiKey; Supplier Part Number 15: 497-18575-ND; Supplier 16: Avnet; Supplier Part Number 16: STM32L053R8T3; Supplier 17: Arrow Electronics; Supplier Part Number 17: STM32L053R8T3; Supplier 18: Farnell; Supplier Part Number 18: 2490881; Supplier 19: Arrow Electronics; Supplier Part Number 19: STM32L053R8T6; Supplier 20: Avnet; Supplier Part Number 20: STM32L053R8T6; Supplier 21: DigiKey; Supplier Part Number 21: 497-14654-ND; Supplier 22: Mouser; Supplier Part Number 22: 511-STM32L053R8T6; Supplier 23: Future Electronics; Supplier Part Number 23: 6170600; Supplier 24: Newark; Supplier Part Number 24: 28AC3380; Supplier 25: DigiKey; Supplier Part Number 25: 497-17875-ND; Supplier 26: Mouser; Supplier Part Number 26: 511-STM32L053R8T7; Supplier 27: Arrow Electronics; Supplier Part Number 27: STM32L053R8T7; Supplier 28: Avnet; Supplier Part Number 28: STM32L053R8T7; Supplier 29: Farnell; Supplier Part Number 29: 2490883
footprint ST-LQFP64 (STM32L053R8)
ibis stm32l0_51_52_53_62_63_lqfp64 (STM32L053R8)
part A pins: 1 VLCD (power), 5 PH0 (io), 6 PH1 (io), 7 NRST (io), 12 VSSA (power), 13 VDDA (power), 18 VSS (power), 19 VDD (power), 31 VSS (power), 32 VDD (power), 47 VSS (power), 48 VDD_USB (power), 54 PD2 (io), 60 BOOT0 (in), 63 VSS (power), 64 VDD (power)
part B pins: 14 PA0 (io), 15 PA1 (io), 16 PA2 (io), 17 PA3 (io), 20 PA4 (io), 21 PA5 (io), 22 PA6 (io), 23 PA7 (io), 41 PA8 (io), 42 PA9 (io), 43 PA10 (io), 44 PA11 (io), 45 PA12 (io), 46 PA13 (io), 49 PA14 (io), 50 PA15 (io)
part C pins: 26 PB0 (io), 27 PB1 (io), 28 PB2 (io), 29 PB10 (io), 30 PB11 (io), 33 PB12 (io), 34 PB13 (io), 35 PB14 (io), 36 PB15 (io), 55 PB3 (io), 56 PB4 (io), 57 PB5 (io), 58 PB6 (io), 59 PB7 (io), 61 PB8 (io), 62 PB9 (io)
part D pins: 2 PC13 (io), 3 PC14 (io), 4 PC15 (io), 8 PC0 (io), 9 PC1 (io), 10 PC2 (io), 11 PC3 (io), 24 PC4 (io), 25 PC5 (io), 37 PC6 (io), 38 PC7 (io), 39 PC8 (io), 40 PC9 (io), 51 PC10 (io), 52 PC11 (io), 53 PC12 (io)
part B text: PORT-A
part C text: PORT-B
part D text: PORT-C

## TLV61070A
designator U?
5V 2-A boost converter with 0.5-V minimum input voltage; Manufacturer 1: Texas Instruments; Manufacturer Part Number 1: TLV61070ADBVR; Manufacturer Lifecycle Status: ACTIVE; Description 1: 5-V 2-A boost converter with 0.5-V minimum input voltage 6-SOT-23 -40 to 125; Category 1: Voltage Regulators - Switching; Case/Package 1: SOT-23; Number of Channels: 1; Number of Pins 1: 6; Supplier 1: DigiKey; Supplier Part Number 1: 296-TLV61070ADBVRCT-ND; RoHS 1: Compliant; Height: 0m; Length: 2.9mm; Lifecycle Status: Production; Thickness: 1.2mm; Topology: Boost; Width: 1.6mm; ComponentLink1URL: https://sigma.octopart.com:443/182282880/technical_drawing/Texas-Instruments-TLV61070ADBVR.pdf?src-supplier=Texas+Instruments; ComponentLink1Description: https://sigma.octopart.com:443/182282880/technical_drawing/Texas-Instruments-TLV61070ADBVR.pdf?src-supplier=Texas+Instruments; Supplier 2: DigiKey; Supplier Part Number 2: 296-TLV61070ADBVRDKR-ND; Supplier 3: DigiKey; Supplier Part Number 3: 296-TLV61070ADBVRTR-ND; Supplier 4: Mouser; Supplier Part Number 4: 595-TLV61070ADBVR; Supplier 5: LCSC; Supplier Part Number 5: C6881375
footprint TI-DBV0006A (TLV61070A)
pins: 1 SW (power) "The switch pin of the converter.", 2 GND (power) "Ground pin of the IC.", 3 EN (in) "Enable logic input.", 4 FB (in) "Voltage feedback of adjustable output voltage.", 5 VOUT (power) "Boost converter output.", 6 VIN (power) "IC power supply input."

## TPD4E6B06
designator U?
4-Channel Bidirectional Low Capacitance ESD Protection Device With 15-kV Contact and Ultra-Low Clamping Voltage; Manufacturer 1: Texas Instruments; Manufacturer Part Number 1: TPD4E6B06DPWR; Manufacturer Lifecycle Status: ACTIVE; Description 1: Quad 4.8-pF, ±5.5-V, ±15-kV ESD protection diode in 0.5mm pitch, 0.64mm2 SON package 4-X2SON -40 to 125; Category 1: ESD and Circuit Protection ICs; Capacitance: 7pF; Clamping Voltage: 13V; Leakage Current: 100nA; Min Breakdown Voltage: 6V; Mount 1: Surface Mount; Number of Bidirectional Channels: 4; Operating Supply Voltage: 5.5V; Peak Pulse Current: 3A; Peak Pulse Power: 40W; Power Line Protection: No; Supplier 1: DigiKey; Supplier Part Number 1: 296-38346-1-ND; RoHS 1: Compliant; Depth: 850µm; Direction: Bidirectional; Height: 400µm; Lead Free 1: Lead Free; Length: 800µm; Lifecycle Status: Production; Max Operating Temperature 1: 125°C; Min Operating Temperature 1: -40°C; Number of Channels: 4; Number of Pins 1: 4; Radiation Hardening: No; REACH SVHC: No; Reverse Standoff Voltage: 5.5V; Schedule B: 8541100080, 8541100080|8541100080|8541100080|8541100080|8541100080; Thickness: 370µm; Width: 800µm; Working Voltage: 5.5V; ComponentLink1URL: https://sigma.octopart.com:443/66519944/technical_drawing/Texas-Instruments-TPD4E6B06DPWR.pdf?src-supplier=Texas+Instruments; ComponentLink1Description: https://sigma.octopart.com:443/66519944/technical_drawing/Texas-Instruments-TPD4E6B06DPWR.pdf?src-supplier=Texas+Instruments; Supplier 2: DigiKey; Supplier Part Number 2: 296-38346-6-ND; Supplier 3: DigiKey; Supplier Part Number 3: 296-38346-2-ND; Supplier 4: Mouser; Supplier Part Number 4: 595-TPD4E6B06DPWR; Supplier 5: LCSC; Supplier Part Number 5: C2869397
footprint TI-DPW0004A (TPD4E6B06)
pins: 1 IO1 (io) "ESD protected line", 2 IO2 (io) "ESD protected line", 3 IO3 (io) "ESD protected line", 4 IO4 (io) "ESD protected line", 5 GND (power) "Ground"